# EAGLE library part PANASONIC_EXBE10C102J_RES_ARRAY_1K_BUSSED (library Nwazet.Go)
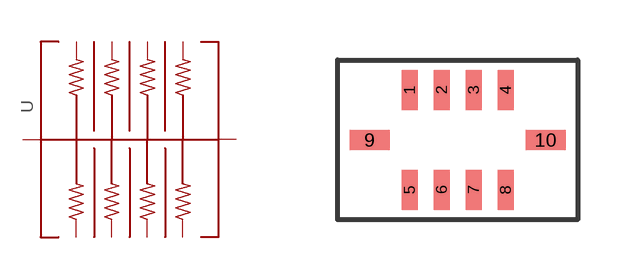
[diagram p15: symbol with the pads of PANASONIC_EXBE10C102J_RES_ARRAY_8_CIRCUITS_BUSSED_1608; footprint PANASONIC_EXBE10C102J_RES_ARRAY_8_CIRCUITS_BUSSED_1608]

Designator prefix -

## PANASONIC_EXBE10C102J_RES_ARRAY_1K_BUSSED  [PANASONIC_EXBE10C102J_RES_ARRAY_8_CIRCUITS_BUSSED_1608]
1  1  pas
2  2  pas
3  3  pas
4  4  pas
5  5  pas
6  6  pas
7  7  pas
8  8  pas
9  GND1  pas
10  GND2  pas

## Footprint PANASONIC_EXBE10C102J_RES_ARRAY_8_CIRCUITS_BUSSED_1608 (pad centres in mm)
smd 0.4 x 1: 1 -1.2,1.25; 2 -0.4,1.25; 3 0.4,1.25; 4 1.2,1.25; 5 -1.2,-1.25; 6 -0.4,-1.25; 7 0.4,-1.25; 8 1.2,-1.25
smd 1 x 0.5: 9 -2.2,0; 10 2.2,0